# Altium schematic symbol library 飞控接收机主板.SchLib: 4 symbols
Pins are listed as number, name and electrical type; pins without a type are passive.

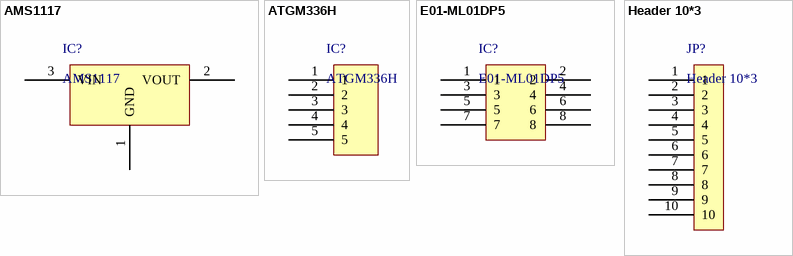
[diagram p0: symbols AMS1117 to Header 10*3]

## AMS1117
designator IC?
3V3降压芯片
pins: 1 GND, 2 VOUT, 3 VIN

## ATGM336H
designator IC?
GPS模块
pins: 1, 2, 3, 4, 5

## E01-ML01DP5
designator IC?
2.4G无线模块
pins: 1, 2, 3, 4, 5, 6, 7, 8

## Header 10*3
designator JP?
10孔3排弯针接插件
pins: 1, 2, 3, 4, 5, 6, 7, 8, 9, 10